# EAGLE library part RP-MR220 (library funkfinger)
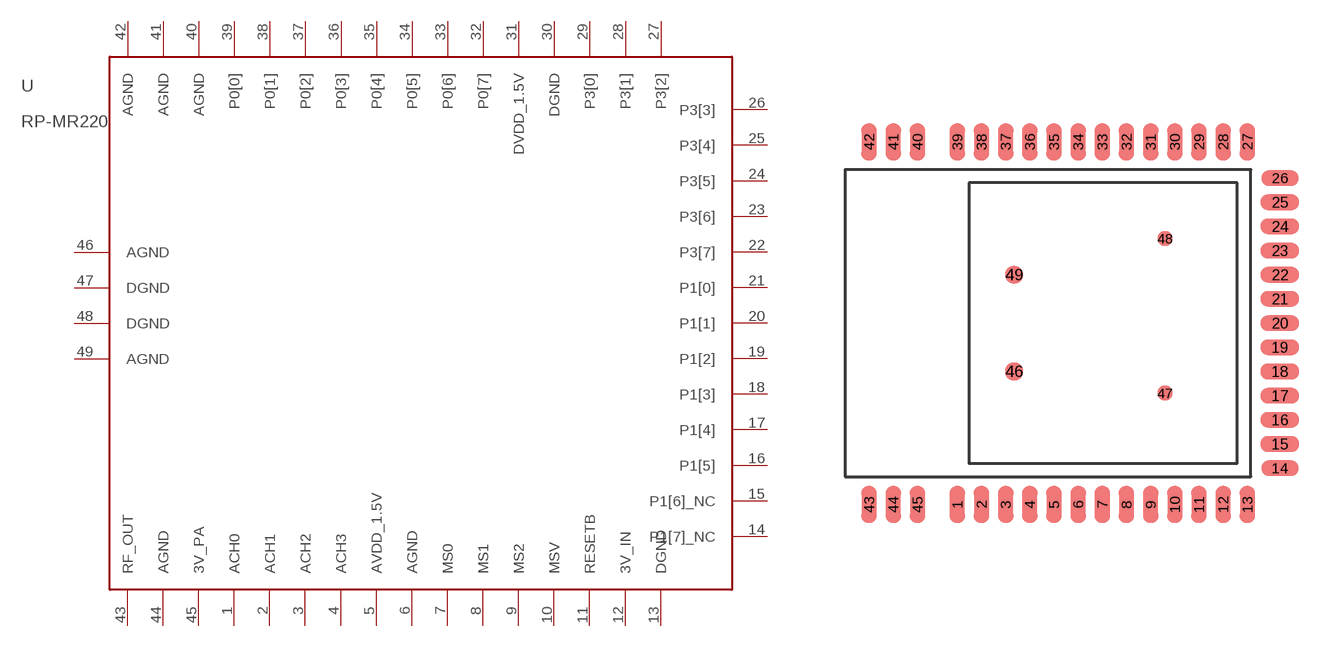
[diagram p4: symbol with the pads of RP-MR220; footprint RP-MR220]

Designator prefix -

## RP-MR220  [RP-MR220]
1  ACH0
2  ACH1
3  ACH2
4  ACH3
5  AVDD_1.5V  pwr
6  AGND  sup
7  MS0  in
8  MS1  in
9  MS2  in
10  MSV  in
11  RESETB  in
12  3V_IN  pwr
13  DGND  sup
14  P1[7]_NC  out
15  P1[6]_NC
16  P1[5]
17  P1[4]
18  P1[3]
19  P1[2]
20  P1[1]
21  P1[0]
22  P3[7]
23  P3[6]
24  P3[5]
25  P3[4]
26  P3[3]
27  P3[2]
28  P3[1]
29  P3[0]
30  DGND  sup
31  DVDD_1.5V  pwr
32  P0[7]
33  P0[6]
34  P0[5]
35  P0[4]
36  P0[3]
37  P0[2]
38  P0[1]
39  P0[0]
40  AGND  sup
41  AGND  sup
42  AGND  sup
43  RF_OUT  sup
44  AGND  sup
45  3V_PA  sup
46  AGND  sup
47  DGND  sup
48  DGND  sup
49  AGND  sup

## Footprint RP-MR220 (pad centres in mm)
smd 0.635 x 1.524: 1 -4.24,-7.62; 2 -3.24,-7.62; 3 -2.24,-7.62; 4 -1.24,-7.62; 5 -0.24,-7.62; 6 0.76,-7.62; 7 1.76,-7.62; 8 2.76,-7.62; 9 3.76,-7.62; 10 4.76,-7.62; 11 5.76,-7.62; 12 6.76,-7.62; 13 7.76,-7.62; 27 7.76,7.38; 28 6.76,7.38; 29 5.76,7.38; 30 4.76,7.38; 31 3.76,7.38; 32 2.76,7.38; 33 1.76,7.38; 34 0.76,7.38; 35 -0.24,7.38; 36 -1.24,7.38; 37 -2.24,7.38; 38 -3.24,7.38; 39 -4.24,7.38; 40 -5.89,7.38; 41 -6.89,7.38; 42 -7.89,7.38; 43 -7.89,-7.62; 44 -6.89,-7.62; 45 -5.89,-7.62
smd 1.524 x 0.635: 14 9.11,-6.12; 26 9.11,5.88
smd 1.6 x 0.65: 15 9.11,-5.12; 16 9.11,-4.12; 17 9.11,-3.12; 18 9.11,-2.12; 19 9.11,-1.12; 20 9.11,-0.12; 21 9.11,0.88; 22 9.11,1.88; 23 9.11,2.88; 24 9.11,3.88; 25 9.11,4.88
smd 0.737 x 0.737: 46 -1.89,-2.12; 49 -1.89,1.88
smd 0.625 x 0.625: 47 4.36,-3.02; 48 4.36,3.38